# EAGLE library part SI3443CDV (library dflocal)
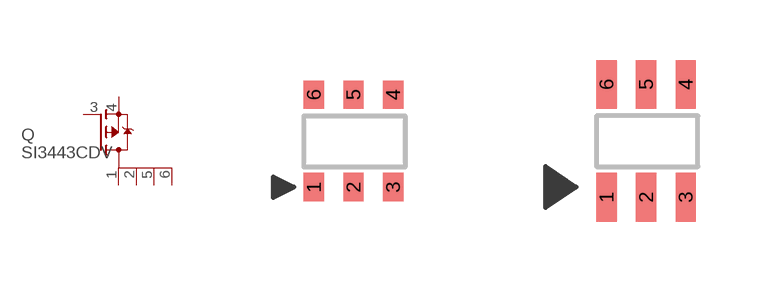
[diagram p1: symbol with the pads of TSOP6_VISHAY; footprints TSOP6_VISHAY, TSOP6_VISHAY_LARGEPAD]

Designator prefix Q

## SI3443CDV  [TSOP6_VISHAY]
1  D1  pas
2  D2  pas
3  G  pas
4  S  pas
5  D3  pas
6  D4  pas

## SI3443CDV-LARGEPAD  [TSOP6_VISHAY_LARGEPAD]
Pads as for TSOP6_VISHAY

## Footprint TSOP6_VISHAY (pad centres in mm)
smd 0.508 x 0.711: 1 0,0; 2 0.991,0; 3 1.981,0; 4 1.981,2.311; 5 0.991,2.311; 6 0,2.311

## Footprint TSOP6_VISHAY_LARGEPAD (pad centres in mm)
smd 0.508 x 1.219: 1 0,0; 2 0.991,0; 3 1.981,0; 4 1.981,2.819; 5 0.991,2.819; 6 0,2.819